# Altium schematic symbol library NXFT15XH103FA2B100.SchLib: 1 symbol
Pins are listed as number, name and electrical type; pins without a type are passive.

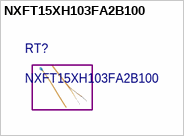
[diagram p0: symbol NXFT15XH103FA2B100]

## NXFT15XH103FA2B100
designator RT?
NTC (Negative Temperature Coefficient) Thermistors 10Kohm +/-1% 3380K 100mm length